# EAGLE library part TQ2SA-5V (library RELEE_G6K-2F-Y-TR DC5V_Library)
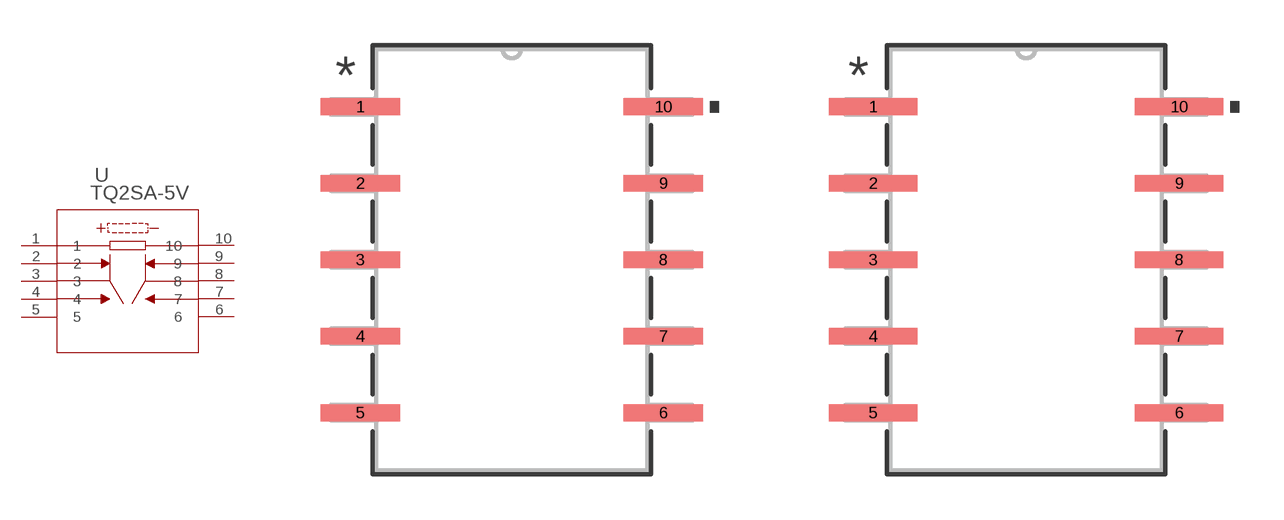
[diagram p0: symbol with the pads of RELAY_TQ2_SA_PAN; footprints RELAY_TQ2_SA_PAN, RELAY_TQ2_SA_PAN-M]

Designator prefix U

## TQ2SA-5VRELAY_TQ2_SA_PAN (Copyright: Copyright (C) 2025 Ultra Librarian. All rights reserved.; Manufacturer_Part_Number: TQ2SA-5V; Mfr_Name: Panasonic)  [RELAY_TQ2_SA_PAN]
1  1  pas
2  2  pas
3  3  pas
4  4  pas
5  5  pas
6  6  pas
7  7  pas
8  8  pas
9  9  pas
10  10  pas

## TQ2SA-5VRELAY_TQ2_SA_PAN-M (Copyright: Copyright (C) 2025 Ultra Librarian. All rights reserved.; Manufacturer_Part_Number: TQ2SA-5V; Mfr_Name: Panasonic)  [RELAY_TQ2_SA_PAN-M]
Pads as for RELAY_TQ2_SA_PAN

## TQ2SA-5VRELAY_TQ2_SA_PAN-L (Copyright: Copyright (C) 2025 Ultra Librarian. All rights reserved.; Manufacturer_Part_Number: TQ2SA-5V; Mfr_Name: Panasonic)  [RELAY_TQ2_SA_PAN-L]
Pads as for RELAY_TQ2_SA_PAN

## Footprint RELAY_TQ2_SA_PAN (pad centres in mm)
smd 2.63 x 0.558: 1 -5.029,5.08; 2 -5.029,2.54; 3 -5.029,0; 4 -5.029,-2.54; 5 -5.029,-5.08; 6 5.029,-5.08; 7 5.029,-2.54; 8 5.029,0; 9 5.029,2.54; 10 5.029,5.08

## Footprint RELAY_TQ2_SA_PAN-M (pad centres in mm)
smd 2.93 x 0.558: 1 -5.079,5.08; 2 -5.079,2.54; 3 -5.079,0; 4 -5.079,-2.54; 5 -5.079,-5.08; 6 5.079,-5.08; 7 5.079,-2.54; 8 5.079,0; 9 5.079,2.54; 10 5.079,5.08

## Footprint RELAY_TQ2_SA_PAN-L (pad centres in mm)
smd 2.33 x 0.508: 1 -4.979,5.08; 2 -4.979,2.54; 3 -4.979,0; 4 -4.979,-2.54; 5 -4.979,-5.08; 6 4.979,-5.08; 7 4.979,-2.54; 8 4.979,0; 9 4.979,2.54; 10 4.979,5.08